# Altium footprint library PCB - LEADLESS - LFCSP - AD LFCSP-8 3X3MM CP-8-13.PcbLib: 1 footprints
Each footprint in its own frame and in the unit in brackets; x right, y up, seen from the top. Pads: shape width x height; smd on the part's side, far side on the other; paste and mask are expansions set on the pad; w line width, h text height; cw(c..) or ccw(c..) is an arc to the next point about the centre after c.
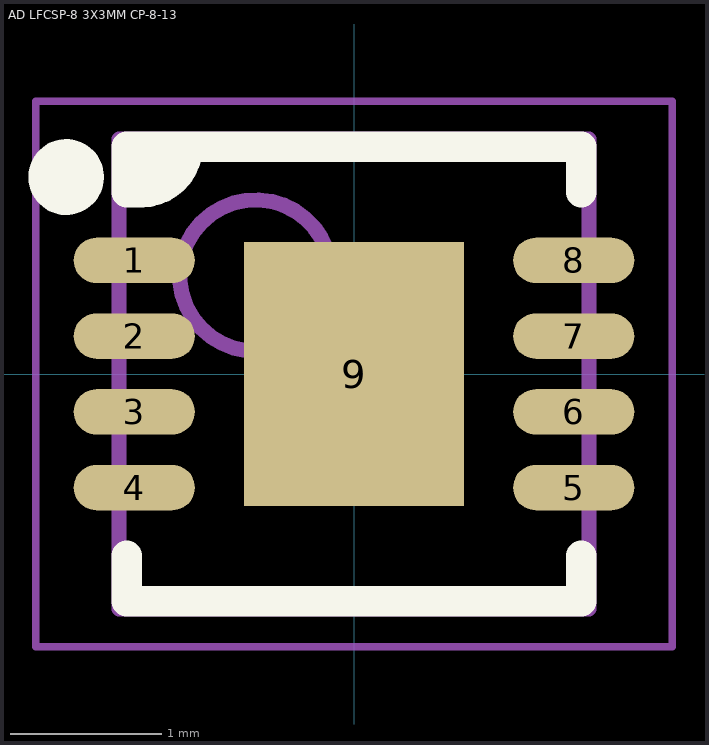
[diagram p0: the footprint, top view; thin cyan lines are the x and y axes]

## AD LFCSP-8 3X3MM CP-8-13 [mm] "8-Lead Lead Frame Chip Scale Package [LFCSP]  3 mm × 3 mm Body and 0.75 Package Height"
height 0.8
pads (9):
  oval 0.8x0.3 smd: 1(-1.45,0.75) 2(-1.45,0.25) 3(-1.45,-0.25) 4(-1.45,-0.75) 5(1.45,-0.75) 6(1.45,-0.25) 7(1.45,0.25) 8(1.45,0.75)
  rect 1.45x1.74 smd: 9(0,0)
Top Overlay:
  circle w0.25: c-1.9,1.3 r0.125
  region: -1.5,1.2 -1.5,1.5 -1.1,1.5 -1.2,1.4 -1.2,1.2
  lines w0.2: -1.5,-1.2 -1.5,-1.5 1.5,-1.5 1.5,-1.2 ; -1.1,1.5 cw(c-1.4,1.5) -1.4,1.2 -1.5,1.2 -1.5,1.5 1.5,1.5 1.5,1.2
Mechanical 13:
  circle w0.1: c-0.65,0.65 r0.5
  lines w0.1: -1.55,-1.55 -1.55,1.55 1.55,1.55 1.55,-1.55 -1.55,-1.55
Mechanical 15:
  lines w0.05: -2.1,-1.8 -2.1,1.8 2.1,1.8 2.1,-1.8 -2.1,-1.8
  lines w0.1: -0.5,0 0.5,0 ; 0,-0.5 0,0.5
3D body "AD LFCSP-8 3X3MM CP-8-13.step": height 0.8, standoff 0, extent -1.56,-1.55 1.56,1.55